# EAGLE library part 74LVC125ABQ (library Board4You)
Quad buffer/line driver,QFN-14
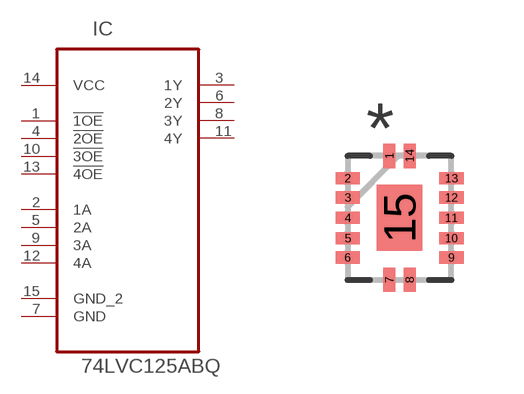
[diagram p0: symbol with the pads of QFN50P250X300X100-15N; footprint QFN50P250X300X100-15N]

Designator prefix IC

## 74LVC125ABQ (MPN: 74LVC125ABQ; OC_FARNELL: 2164869; OC_NEWARK: 55W4713; PACKAGE: QFN-14; SUPPLIER: NXP)  [QFN50P250X300X100-15N]
1  !1OE  in
2  1A  in
3  1Y  out
4  !2OE  in
5  2A  in
6  2Y  out
7  GND  pas
8  3Y  out
9  3A  in
10  !3OE  in
11  4Y  out
12  4A  in
13  !4OE  in
14  VCC  pwr
15  GND_2  pas

## Footprint QFN50P250X300X100-15N (pad centres in mm)
smd 0.305 x 0.61: 1 -0.254,1.549; 7 -0.254,-1.549; 8 0.254,-1.549; 14 0.254,1.549
smd 0.61 x 0.305: 2 -1.295,0.991; 3 -1.295,0.508; 4 -1.295,0; 5 -1.295,-0.508; 6 -1.295,-0.991; 9 1.295,-0.991; 10 1.295,-0.508; 11 1.295,0; 12 1.295,0.508; 13 1.295,0.991
smd 1.143 x 1.651: 15 0,0